# EAGLE library part EURORACK_POWER01 (library bao03)
PIN HEADER
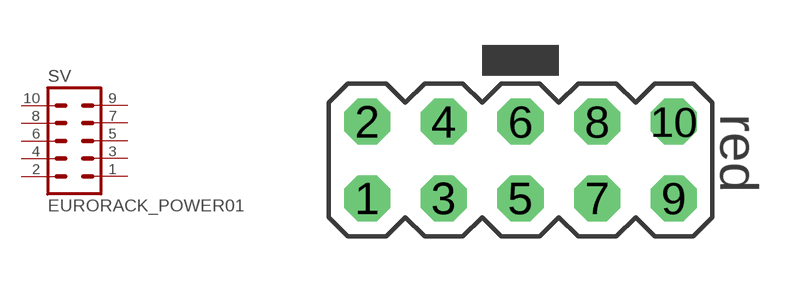
[diagram p4: symbol with the pads of EURORACK_POWER01; footprint EURORACK_POWER01]

Designator prefix SV

## EURORACK_POWER01 (OC_FARNELL: unknown; OC_NEWARK: unknown)  [EURORACK_POWER01]
1  1  pas
2  2  pas
3  3  pas
4  4  pas
5  5  pas
6  6  pas
7  7  pas
8  8  pas
9  9  pas
10  10  pas

## Footprint EURORACK_POWER01 (pad centres in mm)
PIN HEADER
drill 1.016 octagon: 1 -5.08,-1.27; 2 -5.08,1.27; 3 -2.54,-1.27; 4 -2.54,1.27; 5 0,-1.27; 6 0,1.27; 7 2.54,-1.27; 8 2.54,1.27; 9 5.08,-1.27; 10 5.08,1.27